# EAGLE library part LCD12864 (library radio-tracker)
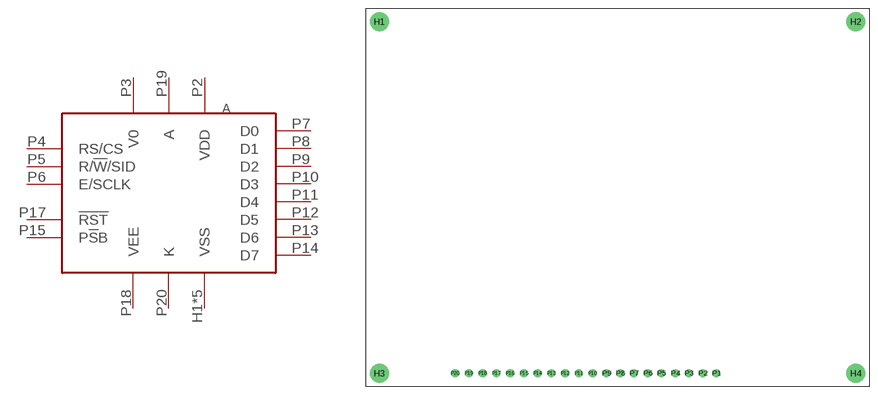
[diagram p8: symbol with the pads of LCD12864; footprint LCD12864]

Designator prefix A

## LCD12864  [LCD12864]
H1  VSS  pas
H2  VSS  pas
H3  VSS  pas
H4  VSS  pas
P1  VSS  pas
P2  VDD  pwr
P3  V0  pwr
P4  RS/CS  in
P5  R/!W!/SID  in
P6  E/SCLK  in
P7  D0
P8  D1
P9  D2
P10  D3
P11  D4
P12  D5
P13  D6
P14  D7
P15  P!S!B  in
P17  !RST  in
P18  VEE  pwr
P19  A  pwr
P20  K  pas

## Footprint LCD12864 (pad centres in mm)
drill 2.5: H1 -44,32.5; H2 44,32.5; H3 -44,-32.5; H4 44,-32.5
drill 1: P1 18.26,-32.5; P2 15.72,-32.5; P3 13.18,-32.5; P4 10.64,-32.5; P5 8.1,-32.5; P6 5.56,-32.5; P7 3.02,-32.5; P8 0.48,-32.5; P9 -2.06,-32.5; P10 -4.6,-32.5; P11 -7.14,-32.5; P12 -9.68,-32.5; P13 -12.22,-32.5; P14 -14.76,-32.5; P15 -17.3,-32.5; P16 -19.84,-32.5; P17 -22.38,-32.5; P18 -24.92,-32.5; P19 -27.46,-32.5; P20 -30,-32.5